# Altium footprint library WE.PcbLib: 2 footprints
Each footprint in its own frame and in the unit in brackets; x right, y up, seen from the top. Pads: shape width x height; smd on the part's side, far side on the other; paste and mask are expansions set on the pad; w line width, h text height; cw(c..) or ccw(c..) is an arc to the next point about the centre after c.
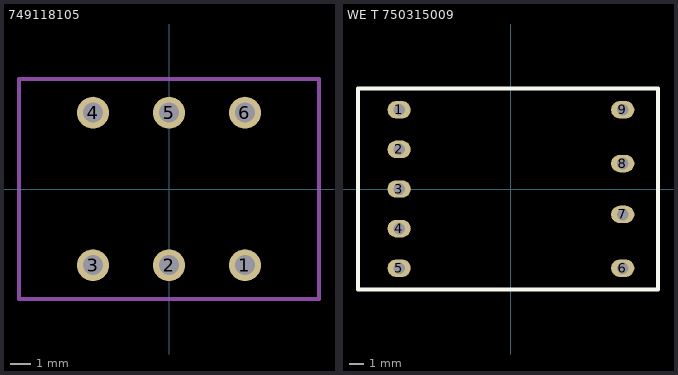
[diagram p0: the footprints below, top view; thin cyan lines are the x and y axes]

## 749118105 [mm]
pads (6):
  round 1.6 hole 1 unplated: 1(3.8,-3.812) 2(0,-3.812) 3(-3.8,-3.812) 4(-3.8,3.813) 5(0,3.813) 6(3.8,3.813)
Mechanical 1:
  lines w0.2: -7.5,-5.5 7.5,-5.5 7.5,5.5 -7.5,5.5 -7.5,-5.5

## WE T 750315009 [mm] "EE13"
pads (9):
  oval 1.6x1.2 hole 0.8: 1(-7.675,5.44) 2(-7.675,2.72) 3(-7.675,0) 4(-7.675,-2.72) 5(-7.675,-5.44) 6(7.675,-5.44) 7(7.675,-1.75) 8(7.675,1.75) 9(7.675,5.44)
Top Overlay:
  lines w0.254: -10.5,-6.9 10.1,-6.9 10.1,6.9 -10.5,6.9 -10.5,-6.9
3D body "WE EF12.6 .STEP": height 10.16, standoff -2.92, extent -10.425,-6.86 10.025,6.86